# Altium footprint library Inductor_THT_Wurth.PcbLib: 11 footprints
Each footprint in its own frame and in the unit in brackets; x right, y up, seen from the top. Pads: shape width x height; smd on the part's side, far side on the other; paste and mask are expansions set on the pad; w line width, h text height; cw(c..) or ccw(c..) is an arc to the next point about the centre after c.
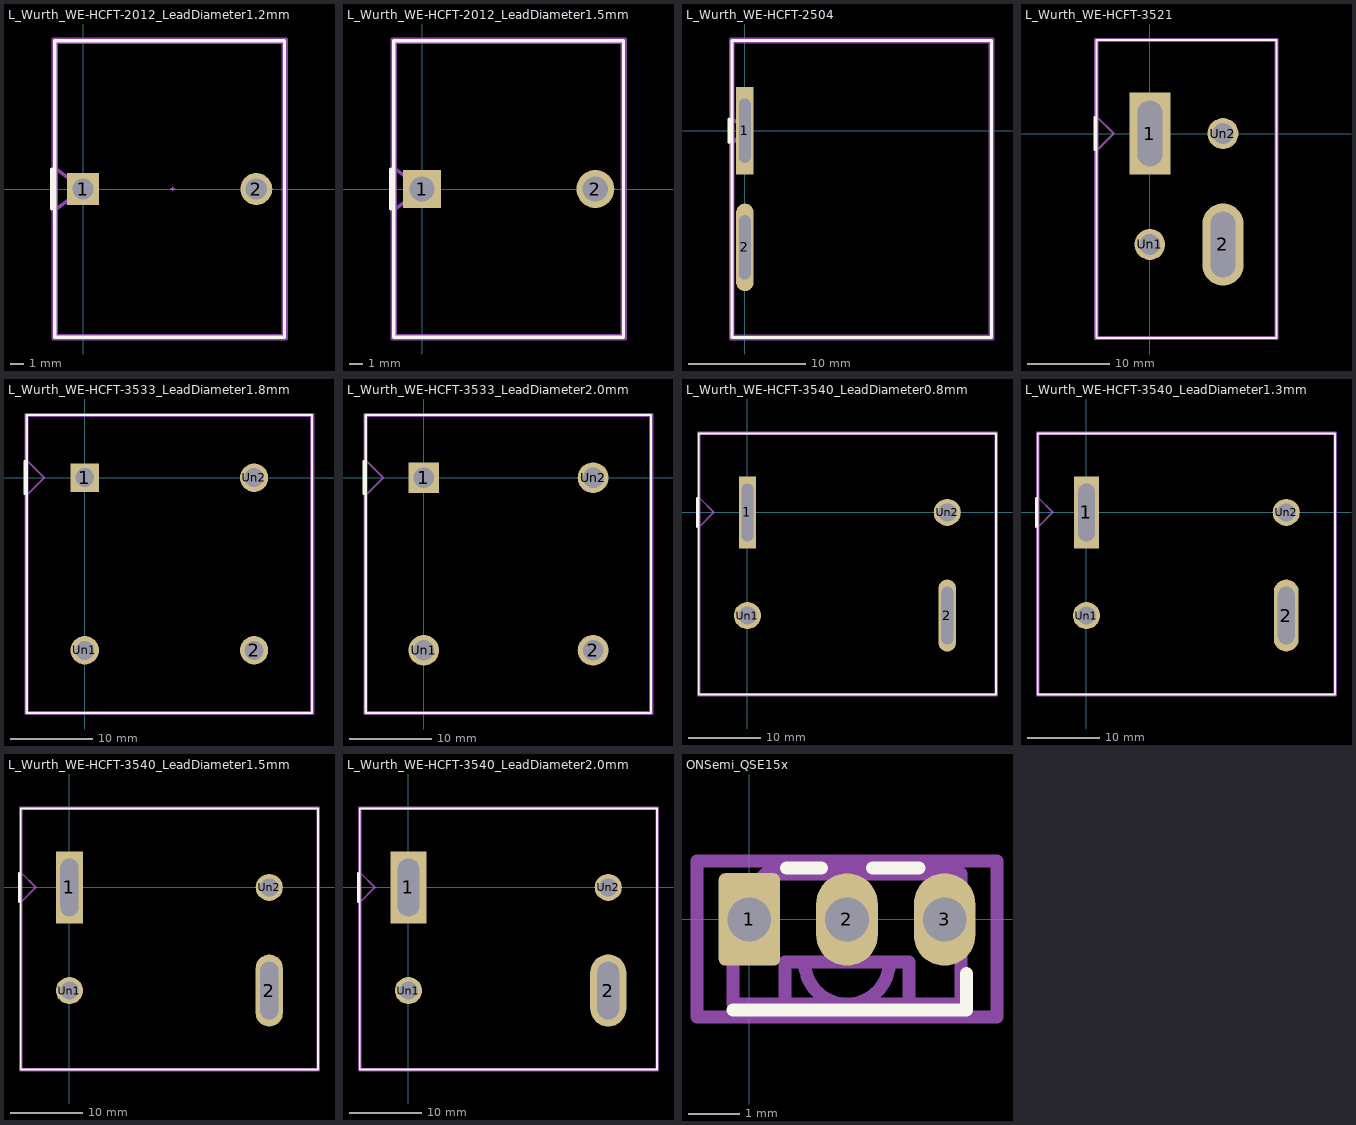
[diagram p0: the footprints below, top view; thin cyan lines are the x and y axes]

## L_Wurth_WE-HCFT-2012_LeadDiameter1.2mm [mm]
pads (2):
  rect 2.4x2.4 hole 1.6: 1(0,0)
  round 2.4 hole 1.6: 2(13,0)
F.SilkS:
  lines w0.254: -2.35,-1.5 -2.35,1.5 ; -2.11,-11.11 -2.11,11.11 15.11,11.11 15.11,-11.11 -2.11,-11.11
Top Component Center:
  lines w0.127: 6.604,0 6.858,0 ; 6.731,-0.127 6.731,0.127
Top Assembly:
  lines w0.254: -2,-1.5 0,0 -2,1.5 ; -2,-11 -2,11 15,11 15,-11 -2,-11
  text "'.Designator'" at 2.453,-0.84 h1
Top Courtyard:
  lines w0.254: -2.25,-11.25 -2.25,11.25 15.25,11.25 15.25,-11.25 -2.25,-11.25
Top Designator:
  text ".Designator" at -1.168,-0.508 h1.52
3D body "L_Wurth_WE-HCFT-2012_LeadDiameter1.2mm.step": height 13.1, standoff -3.8, extent -0.599,-10.584 13.851,10.584

## L_Wurth_WE-HCFT-2012_LeadDiameter1.5mm [mm]
pads (2):
  rect 2.85x2.85 hole 1.9: 1(0,0)
  round 2.85 hole 1.9: 2(13,0)
F.SilkS:
  lines w0.254: -2.35,-1.5 -2.35,1.5 ; -2.11,-11.11 -2.11,11.11 15.11,11.11 15.11,-11.11 -2.11,-11.11
Top Assembly:
  lines w0.254: -2,-1.5 0,0 -2,1.5 ; -2,-11 -2,11 15,11 15,-11 -2,-11
  text "'.Designator'" at 2.453,-0.84 h1
Top Courtyard:
  lines w0.254: -2.25,-11.25 -2.25,11.25 15.25,11.25 15.25,-11.25 -2.25,-11.25
Top Designator:
  text ".Designator" at -1.168,-0.508 h1.52
3D body "L_Wurth_WE-HCFT-2012_LeadDiameter1.5mm.step": height 13.1, standoff -3.8, extent -0.947,-10.584 13.95,10.584

## L_Wurth_WE-HCFT-2504 [mm]
pads (2):
  rect 1.5x7.5 hole 5.5 slot 1 at 0 deg: 1(0,0)
  rrect100% 1.5x7.5 hole 5.5 slot 1 at 0 deg: 2(0,-10)
F.SilkS:
  lines w0.254: -1.35,-1 -1.35,1 ; -1.11,-17.71 21.11,-17.71 21.11,7.71 -1.11,7.71 -1.11,-17.71
Top Assembly:
  lines w0.254: -1,-1 0,0 -1,1 ; -1,-17.6 21,-17.6 21,7.6 -1,7.6 -1,-17.6
  text "'.Designator'" at 6.953,-5.84 h1
Top Courtyard:
  lines w0.254: -1.25,-17.85 21.25,-17.85 21.25,7.85 -1.25,7.85 -1.25,-17.85
Top Designator:
  text ".Designator" at 2.332,-5.508 h1.52
3D body "L_Wurth_WE-HCFT-2504.step": height 4.1, standoff -3.5, extent -0.25,-17.6 21.75,7.6

## L_Wurth_WE-HCFT-3521 [mm]
pads (4):
  rect 5x10 hole 8 slot 3 at 0 deg: 1(0,0)
  rrect100% 5x10 hole 8 slot 3 at 0 deg: 2(8.9,-13.5)
  round 3.75 hole 2.5: Un1(0,-13.5) Un2(8.9,0)
F.SilkS:
  lines w0.254: -6.75,-2 -6.75,2 ; -6.51,-24.86 15.41,-24.86 15.41,11.36 -6.51,11.36 -6.51,-24.86
Top Assembly:
  lines w0.254: -6.4,-2 -4.4,0 -6.4,2 ; -6.4,-24.75 15.3,-24.75 15.3,11.25 -6.4,11.25 -6.4,-24.75
  text "'.Designator'" at 0.403,-7.59 h1
Top Courtyard:
  lines w0.254: -6.65,-25 15.55,-25 15.55,11.5 -6.65,11.5 -6.65,-25
Top Designator:
  text ".Designator" at -3.218,-7.258 h1.52
3D body "L_Wurth_WE-HCFT-3521.step": height 33.1, standoff -4.3, extent -5.8,-24.35 14.7,10.85

## L_Wurth_WE-HCFT-3533_LeadDiameter1.8mm [mm]
pads (4):
  rect 3.45x3.45 hole 2.3: 1(0,0)
  round 3.45 hole 2.3: 2(20.6,-21) Un1(0,-21) Un2(20.6,0)
F.SilkS:
  lines w0.254: -7.3,-2 -7.3,2 ; -7.06,-28.61 27.66,-28.61 27.66,7.61 -7.06,7.61 -7.06,-28.61
Top Assembly:
  lines w0.254: -6.95,-2 -4.95,0 -6.95,2 ; -6.95,-28.5 27.55,-28.5 27.55,7.5 -6.95,7.5 -6.95,-28.5
  text "'.Designator'" at 6.253,-11.34 h1
Top Courtyard:
  lines w0.254: -7.2,-28.75 27.8,-28.75 27.8,7.75 -7.2,7.75 -7.2,-28.75
Top Designator:
  text ".Designator" at 2.632,-11.008 h1.52
3D body "L_Wurth_WE-HCFT-3533_LeadDiameter1.8mm.step": height 31.9, standoff -5.3, extent -6.6,-28.1 27.2,7.1

## L_Wurth_WE-HCFT-3533_LeadDiameter2.0mm [mm]
pads (4):
  rect 3.75x3.75 hole 2.5: 1(0,0)
  round 3.75 hole 2.5: 2(20.6,-21) Un1(0,-21) Un2(20.6,0)
F.SilkS:
  lines w0.254: -7.3,-2 -7.3,2 ; -7.06,-28.61 27.66,-28.61 27.66,7.61 -7.06,7.61 -7.06,-28.61
Top Assembly:
  lines w0.254: -6.95,-2 -4.95,0 -6.95,2 ; -6.95,-28.5 27.55,-28.5 27.55,7.5 -6.95,7.5 -6.95,-28.5
  text "'.Designator'" at 6.253,-11.34 h1
Top Courtyard:
  lines w0.254: -7.2,-28.75 27.8,-28.75 27.8,7.75 -7.2,7.75 -7.2,-28.75
Top Designator:
  text ".Designator" at 2.632,-11.008 h1.52
3D body "L_Wurth_WE-HCFT-3533_LeadDiameter2.0mm.step": height 31.9, standoff -5.3, extent -6.6,-28.1 27.2,7.1

## L_Wurth_WE-HCFT-3540_LeadDiameter0.8mm [mm]
pads (4):
  rect 2.4x10 hole 8 slot 1.6 at 0 deg: 1(0,0)
  rrect100% 2.4x10 hole 8 slot 1.6 at 0 deg: 2(27.7,-14.3)
  round 3.75 hole 2.5: Un1(0,-14.3) Un2(27.7,0)
F.SilkS:
  lines w0.254: -7,-2 -7,2 ; -6.76,-25.26 34.46,-25.26 34.46,10.96 -6.76,10.96 -6.76,-25.26
Top Assembly:
  lines w0.254: -6.65,-2 -4.65,0 -6.65,2 ; -6.65,-25.15 34.35,-25.15 34.35,10.85 -6.65,10.85 -6.65,-25.15
  text "'.Designator'" at 9.803,-7.99 h1
Top Courtyard:
  lines w0.254: -6.9,-25.4 34.6,-25.4 34.6,11.1 -6.9,11.1 -6.9,-25.4
Top Designator:
  text ".Designator" at 6.182,-7.658 h1.52
3D body "L_Wurth_WE-HCFT-3540_LeadDiameter0.8mm.step": height 33.1, standoff -3.8, extent -6.41,-24.75 34.1,10.45

## L_Wurth_WE-HCFT-3540_LeadDiameter1.3mm [mm]
pads (4):
  rect 3.45x10 hole 8 slot 2.3 at 0 deg: 1(0,0)
  rrect100% 3.45x10 hole 8 slot 2.3 at 0 deg: 2(27.7,-14.3)
  round 3.75 hole 2.5: Un1(0,-14.3) Un2(27.7,0)
F.SilkS:
  lines w0.254: -7,-2 -7,2 ; -6.76,-25.26 34.46,-25.26 34.46,10.96 -6.76,10.96 -6.76,-25.26
Top Assembly:
  lines w0.254: -6.65,-2 -4.65,0 -6.65,2 ; -6.65,-25.15 34.35,-25.15 34.35,10.85 -6.65,10.85 -6.65,-25.15
  text "'.Designator'" at 9.803,-7.99 h1
Top Courtyard:
  lines w0.254: -6.9,-25.4 34.6,-25.4 34.6,11.1 -6.9,11.1 -6.9,-25.4
Top Designator:
  text ".Designator" at 6.182,-7.658 h1.52
3D body "L_Wurth_WE-HCFT-3540_LeadDiameter1.3mm.step": height 33.1, standoff -3.8, extent -6.41,-24.75 34.1,10.45

## L_Wurth_WE-HCFT-3540_LeadDiameter1.5mm [mm]
pads (4):
  rect 3.75x10 hole 8 slot 2.5 at 0 deg: 1(0,0)
  rrect100% 3.75x10 hole 8 slot 2.5 at 0 deg: 2(27.7,-14.3)
  round 3.75 hole 2.5: Un1(0,-14.3) Un2(27.7,0)
F.SilkS:
  lines w0.254: -7,-2 -7,2 ; -6.76,-25.26 34.46,-25.26 34.46,10.96 -6.76,10.96 -6.76,-25.26
Top Assembly:
  lines w0.254: -6.65,-2 -4.65,0 -6.65,2 ; -6.65,-25.15 34.35,-25.15 34.35,10.85 -6.65,10.85 -6.65,-25.15
  text "'.Designator'" at 9.803,-7.99 h1
Top Courtyard:
  lines w0.254: -6.9,-25.4 34.6,-25.4 34.6,11.1 -6.9,11.1 -6.9,-25.4
Top Designator:
  text ".Designator" at 6.182,-7.658 h1.52
3D body "L_Wurth_WE-HCFT-3540_LeadDiameter1.5mm.step": height 33.1, standoff -3.8, extent -6.41,-24.75 34.1,10.45

## L_Wurth_WE-HCFT-3540_LeadDiameter2.0mm [mm]
pads (4):
  rect 5x10 hole 8 slot 3 at 0 deg: 1(0,0)
  rrect100% 5x10 hole 8 slot 3 at 0 deg: 2(27.7,-14.3)
  round 3.75 hole 2.5: Un1(0,-14.3) Un2(27.7,0)
F.SilkS:
  lines w0.254: -7,-2 -7,2 ; -6.76,-25.26 -6.76,10.96 34.46,10.96 34.46,-25.26 -6.76,-25.26
Top Assembly:
  lines w0.254: -6.65,-2 -4.65,0 -6.65,2 ; -6.65,-25.15 -6.65,10.85 34.35,10.85 34.35,-25.15 -6.65,-25.15
  text "'.Designator'" at 9.803,-7.99 h1
Top Courtyard:
  lines w0.254: -6.9,-25.4 -6.9,11.1 34.6,11.1 34.6,-25.4 -6.9,-25.4
Top Designator:
  text ".Designator" at 6.182,-7.658 h1.52
3D body "L_Wurth_WE-HCFT-3540_LeadDiameter2.0mm.step": height 33.1, standoff -3.8, extent -6.41,-24.75 34.1,10.45

## ONSemi_QSE15x [mm]
pads (3):
  rrect21% 1.2x1.8 hole 0.85: 1(0,0)
  rrect100% 1.2x1.8 hole 0.85: 2(1.9,0) 3(3.8,0)
F.SilkS:
  lines w0.254: -0.32,-1.76 4.23,-1.76 4.23,-1.05 ; 0.72,1 1.4,1 ; 2.4,1 3.3,1
Top Assembly:
  lines w0.254: 0.695,-1.65 0.695,-0.825 3.105,-0.825 3.105,-1.65 ; 1.075,-0.825 ccw(c1.9,-0.825) 1.9,-1.65 ccw(c1.9,-0.825) 2.725,-0.825 ; -0.32,-1.65 4.12,-1.65 4.12,0.89 0.315,0.89 -0.32,0.255 -0.32,-1.65
  text "'.Designator'" at -2.147,0.87 h1
Top Courtyard:
  lines w0.254: -1.02,-1.9 4.82,-1.9 4.82,1.14 -1.02,1.14 -1.02,-1.9
Top Designator:
  text ".Designator" at -5.868,-0.488 h1.52